# Altium footprint library ICs.PcbLib: 20 footprints (part 1 of 2)
Each footprint in its own frame and in the unit in brackets; x right, y up, seen from the top. Pads: shape width x height; smd on the part's side, far side on the other; paste and mask are expansions set on the pad; w line width, h text height; cw(c..) or ccw(c..) is an arc to the next point about the centre after c.
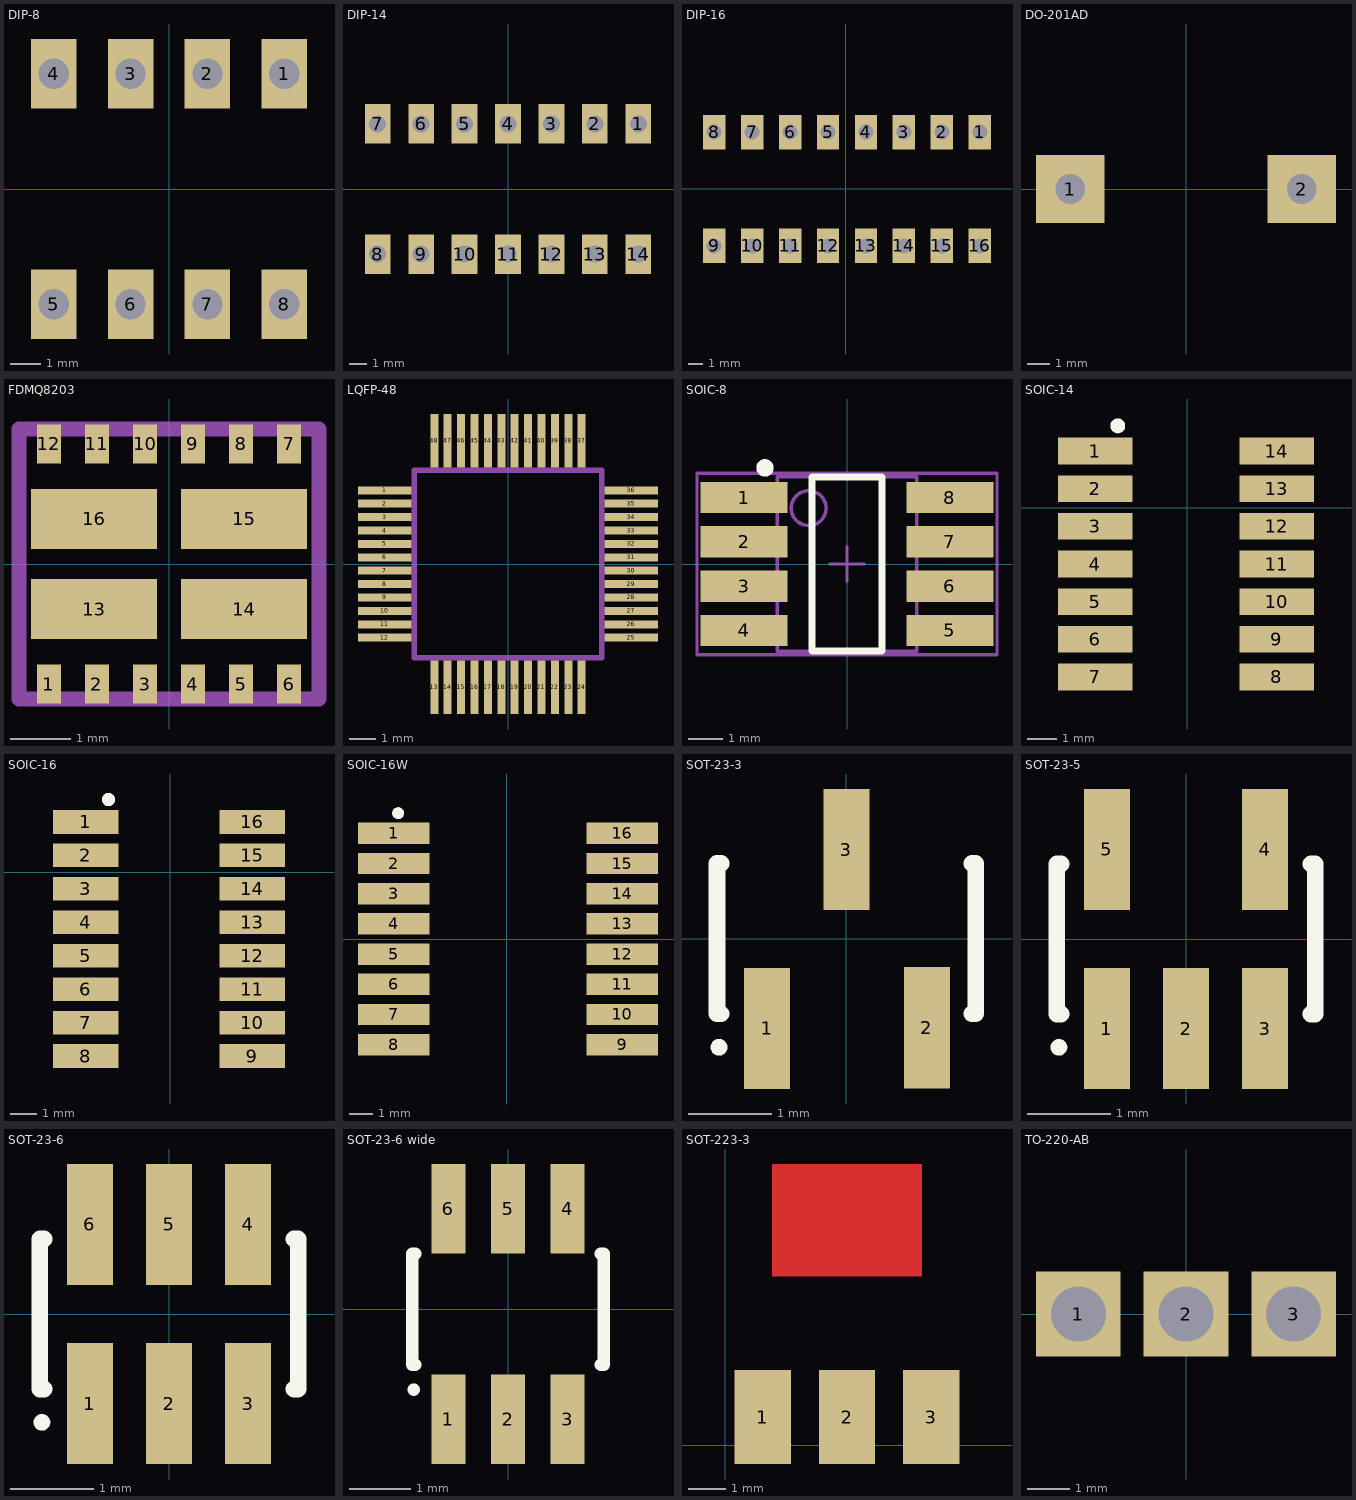
[diagram p0: the footprints below, top view; thin cyan lines are the x and y axes]

## DIP-8 [mm]
pads (8):
  rect 1.5x2.3 hole 1: 1(3.81,3.81) 2(1.27,3.81) 3(-1.27,3.81) 4(-3.81,3.81) 5(-3.81,-3.81) 6(-1.27,-3.81) 7(1.27,-3.81) 8(3.81,-3.81)
3D body: height 5.33, standoff -2.95, extent -5.08,-4.06 5.08,3.81

## DIP-14 [mm]
pads (14):
  rect 1.5x2.3 hole 1: 1(7.62,3.81) 2(5.08,3.81) 3(2.54,3.81) 4(0,3.81) 5(-2.54,3.81) 6(-5.08,3.81) 7(-7.62,3.81) 8(-7.62,-3.81) 9(-5.08,-3.81) 10(-2.54,-3.81) 11(0,-3.81) 12(2.54,-3.81) 13(5.08,-3.81) 14(7.62,-3.81)
3D body: height 5.33, standoff -2.95, extent -9.845,-3.81 9.845,4.06

## DIP-16 [mm]
pads (16):
  rect 1.5x2.3 hole 1: 1(8.98,3.8) 2(6.44,3.8) 3(3.9,3.8) 4(1.36,3.8) 5(-1.18,3.8) 6(-3.72,3.8) 7(-6.26,3.8) 8(-8.8,3.8) 9(-8.8,-3.82) 10(-6.26,-3.82) 11(-3.72,-3.82) 12(-1.18,-3.82) 13(1.36,-3.82) 14(3.9,-3.82) 15(6.44,-3.82) 16(8.98,-3.82)
3D body: height 5.33, standoff -2.95, extent -10.06,-3.97 10.26,3.9

## DO-201AD [mm]
pads (2):
  rect 3x3 hole 1.3: 1(-5.08,0) 2(5.08,0)

## FDMQ8203 [mm]
pads (16):
  rect 0.4x0.65 smd: 1(-2,-2) 2(-1.2,-2) 3(-0.4,-2) 4(0.4,-2) 5(1.2,-2) 6(2,-2) 7(2,2) 8(1.2,2) 9(0.4,2) 10(-0.4,2) 11(-1.2,2) 12(-2,2)
  rect 2.1x1 smd: 13(-1.25,-0.75) 14(1.25,-0.75) 15(1.25,0.75) 16(-1.25,0.75)
Mechanical 1:
  lines w0.254: -2.5,-2.25 2.5,-2.25 2.5,2.25 -2.5,2.25 -2.5,-2.25

## LQFP-48 [mm]
pads (48):
  rect 2x0.3 smd: 1(-4.6,2.75) 2(-4.6,2.25) 3(-4.6,1.75) 4(-4.6,1.25) 5(-4.6,0.75) 6(-4.6,0.25) 7(-4.6,-0.25) 8(-4.6,-0.75) 9(-4.6,-1.25) 10(-4.6,-1.75) 11(-4.6,-2.25) 12(-4.6,-2.75) 25(4.6,-2.75) 26(4.6,-2.25) 27(4.6,-1.75) 28(4.6,-1.25) 29(4.6,-0.75) 30(4.6,-0.25) 31(4.6,0.25) 32(4.6,0.75) 33(4.6,1.25) 34(4.6,1.75) 35(4.6,2.25) 36(4.6,2.75)
  rect 0.3x2 smd: 13(-2.75,-4.6) 14(-2.25,-4.6) 15(-1.75,-4.6) 16(-1.25,-4.6) 17(-0.75,-4.6) 18(-0.25,-4.6) 19(0.25,-4.6) 20(0.75,-4.6) 21(1.25,-4.6) 22(1.75,-4.6) 23(2.25,-4.6) 24(2.75,-4.6) 37(2.75,4.6) 38(2.25,4.6) 39(1.75,4.6) 40(1.25,4.6) 41(0.75,4.6) 42(0.25,4.6) 43(-0.25,4.6) 44(-0.75,4.6) 45(-1.25,4.6) 46(-1.75,4.6) 47(-2.25,4.6) 48(-2.75,4.6)
Mechanical 1:
  lines w0.2: -3.5,-3.5 3.5,-3.5 3.5,3.5 -3.5,3.5 -3.5,-3.5

## SOIC-8 [mm]
height 1.75
pads (8):
  rect 2.5x0.9 smd: 1(-2.95,1.905) 2(-2.95,0.635) 3(-2.95,-0.635) 4(-2.95,-1.905) 5(2.95,-1.905) 6(2.95,-0.635) 7(2.95,0.635) 8(2.95,1.905)
Top Overlay:
  circle w0.25: c-2.35,2.755 r0.125
  lines w0.2: -1,-2.5 1,-2.5 1,2.5 -1,2.5 -1,-2.5
Mechanical 13:
  circle w0.1: c-1.1,1.6 r0.5
  lines w0.1: -2,-2.5 2,-2.5 2,2.5 -2,2.5 -2,-2.5
Mechanical 15:
  lines w0.1: -0.5,0 0.5,0 ; 0,-0.5 0,0.5 ; -4.3,-2.6 4.3,-2.6 4.3,2.6 -4.3,2.6 -4.3,-2.6
3D body: height 1.75, standoff 0, extent -3,-2.45 3,2.45

## SOIC-14 [mm]
height 1.75
pads (14):
  rect 2.5x0.9 smd: 1(-3.113,1.905) 2(-3.113,0.635) 3(-3.113,-0.635) 4(-3.113,-1.905) 5(-3.113,-3.175) 6(-3.113,-4.445) 7(-3.113,-5.715) 8(3.013,-5.715) 9(3.013,-4.445) 10(3.013,-3.175) 11(3.013,-1.905) 12(3.013,-0.635) 13(3.013,0.635) 14(3.013,1.905)
Top Overlay:
  circle w0.25: c-2.35,2.755 r0.125
3D body: height 1.75, standoff 0, extent -3.048,-6.28 3.032,2.47

## SOIC-16 [mm]
height 1.75
pads (16):
  rect 2.5x0.9 smd: 1(-3.213,1.905) 2(-3.213,0.635) 3(-3.213,-0.635) 4(-3.213,-1.905) 5(-3.213,-3.175) 6(-3.213,-4.445) 7(-3.213,-5.715) 8(-3.213,-6.985) 9(3.113,-6.985) 10(3.113,-5.715) 11(3.113,-4.445) 12(3.113,-3.175) 13(3.113,-1.905) 14(3.113,-0.635) 15(3.113,0.635) 16(3.113,1.905)
Top Overlay:
  circle w0.25: c-2.35,2.755 r0.125
3D body: height 1.75, standoff 0, extent -3.032,-7.54 3.048,2.46

## SOIC-16W [mm]
height 1.75
pads (16):
  rect 3x0.9 smd: 1(-4.763,4.445) 2(-4.763,3.175) 3(-4.763,1.905) 4(-4.763,0.635) 5(-4.763,-0.635) 6(-4.763,-1.905) 7(-4.763,-3.175) 8(-4.763,-4.445) 9(4.863,-4.445) 10(4.863,-3.175) 11(4.863,-1.905) 12(4.863,-0.635) 13(4.863,0.635) 14(4.863,1.905) 15(4.863,3.175) 16(4.863,4.445)
Top Overlay:
  circle w0.25: c-4.573,5.295 r0.125
3D body: height 2.65, standoff 0, extent -5.2,-5.25 5.2,5.25

## SOT-23-3 [mm]
height 1.45
pads (3):
  rect 0.55x1.45 smd: 1(-0.95,-1.075) 2(0.965,-1.067) 3(0,1.067)
Top Overlay:
  circle w0.1: c-1.525,-1.3 r0.05
  lines w0.2: -1.5,-0.9 -1.55,-0.9 -1.55,0.9 -1.5,0.9 ; 1.5,-0.9 1.55,-0.9 1.55,0.9 1.5,0.9
3D body: height 1.1, standoff 0, extent -1.49,-1.319 1.51,1.281

## SOT-23-5 [mm]
height 1.45
pads (5):
  rect 0.55x1.45 smd: 1(-0.95,-1.075) 2(0,-1.075) 3(0.95,-1.075) 4(0.95,1.075) 5(-0.95,1.075)
Top Overlay:
  circle w0.1: c-1.525,-1.3 r0.05
  lines w0.2: -1.5,-0.9 -1.55,-0.9 -1.55,0.9 -1.5,0.9 ; 1.5,-0.9 1.55,-0.9 1.55,0.9 1.5,0.9
3D body: height 1.45, standoff 0, extent -1.5,-1.525 1.5,1.475

## SOT-23-6 [mm]
height 1.45
pads (6):
  rect 0.55x1.45 smd: 1(-0.95,-1.075) 2(0,-1.075) 3(0.95,-1.075) 4(0.95,1.075) 5(0,1.075) 6(-0.95,1.075)
Top Overlay:
  circle w0.1: c-1.525,-1.3 r0.05
  lines w0.2: -1.5,-0.9 -1.55,-0.9 -1.55,0.9 -1.5,0.9 ; 1.5,-0.9 1.55,-0.9 1.55,0.9 1.5,0.9
3D body: height 1.45, standoff 0, extent -1.499,-1.525 1.5,1.475

## SOT-23-6 wide [mm]
height 1.45
pads (6):
  rect 0.55x1.45 smd: 1(-0.965,-1.778) 2(0,-1.778) 3(0.965,-1.778) 4(0.965,1.626) 5(0,1.626) 6(-0.965,1.626)
Top Overlay:
  circle w0.1: c-1.525,-1.3 r0.05
  lines w0.2: -1.5,-0.9 -1.55,-0.9 -1.55,0.9 -1.5,0.9 ; 1.5,-0.9 1.55,-0.9 1.55,0.9 1.5,0.9
3D body: height 1.45, standoff 0, extent -1.499,-1.525 1.5,1.475

## SOT-223-3 [mm]
pads (3):
  rect 1.5x2.5 smd: 1(1,0.75) 2(3.25,0.75) 3(5.5,0.75)
Top Layer:
  rectangle: 1.25,4.5 5.25,7.5
3D body: height 1.8, standoff 0, extent -0.096,-0.221 6.604,7.079

## TO-220-AB [mm]
pads (3):
  rect 2x2 hole 1.3: 1(-2.54,0) 2(0,0) 3(2.54,0)
3D body: height 21.5, standoff -7.2, extent -5.325,-1.7 5.325,3.1